# Altium footprint library 2SC1384-TA.PcbLib: 1 footprints
Each footprint in its own frame and in the unit in brackets; x right, y up, seen from the top. Pads: shape width x height; smd on the part's side, far side on the other; paste and mask are expansions set on the pad; w line width, h text height; cw(c..) or ccw(c..) is an arc to the next point about the centre after c.
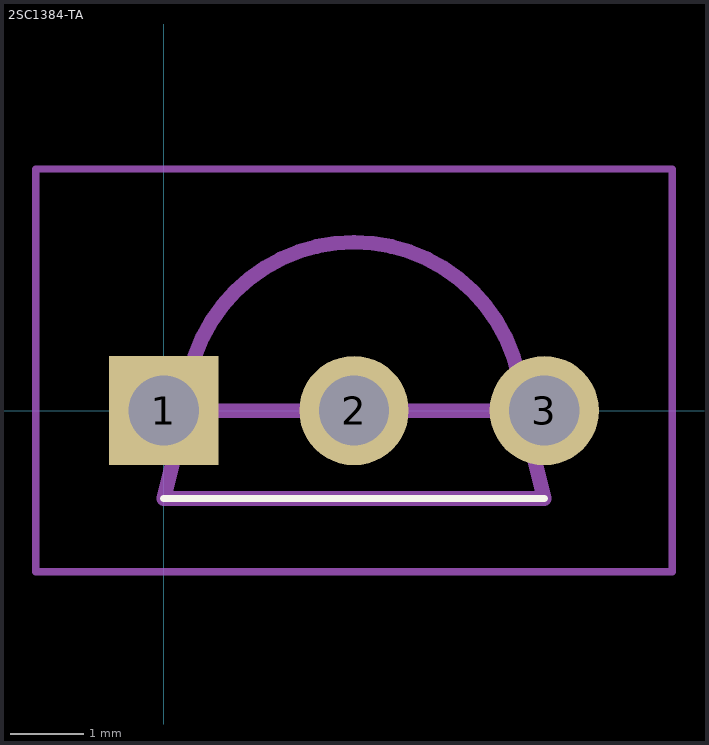
[diagram p0: the footprint, top view; thin cyan lines are the x and y axes]

## 2SC1384-TA [mm]
pads (3):
  rect 1.493x1.493 hole 0.96: 1(0,0)
  round 1.493 hole 0.96: 2(2.6,0) 3(5.2,0)
Top Overlay:
  lines w0.1: 0,-1.2 5.2,-1.2
Mechanical 15:
  lines w0.2: 0,-1.2 0.3,0 ; 0,-1.2 5.2,-1.2 ; 0,-1.2 5.2,-1.2 ; 0.3,0 cw(c2.6,0) 4.9,0 ; 0.3,0 4.9,0 ; 0.3,0 4.9,0 ; 0.3,0 4.9,0 ; 4.9,0 5.2,-1.2
Mechanical 20:
  lines w0.1: -1.747,-2.2 -1.747,3.3 6.947,3.3 6.947,-2.2 -1.747,-2.2